# Altium footprint library clouds_v302.PcbLib: 31 footprints (part 2 of 2)
Each footprint in its own frame and in the unit in brackets; x right, y up, seen from the top. Pads: shape width x height; smd on the part's side, far side on the other; paste and mask are expansions set on the pad; w line width, h text height; cw(c..) or ccw(c..) is an arc to the next point about the centre after c.
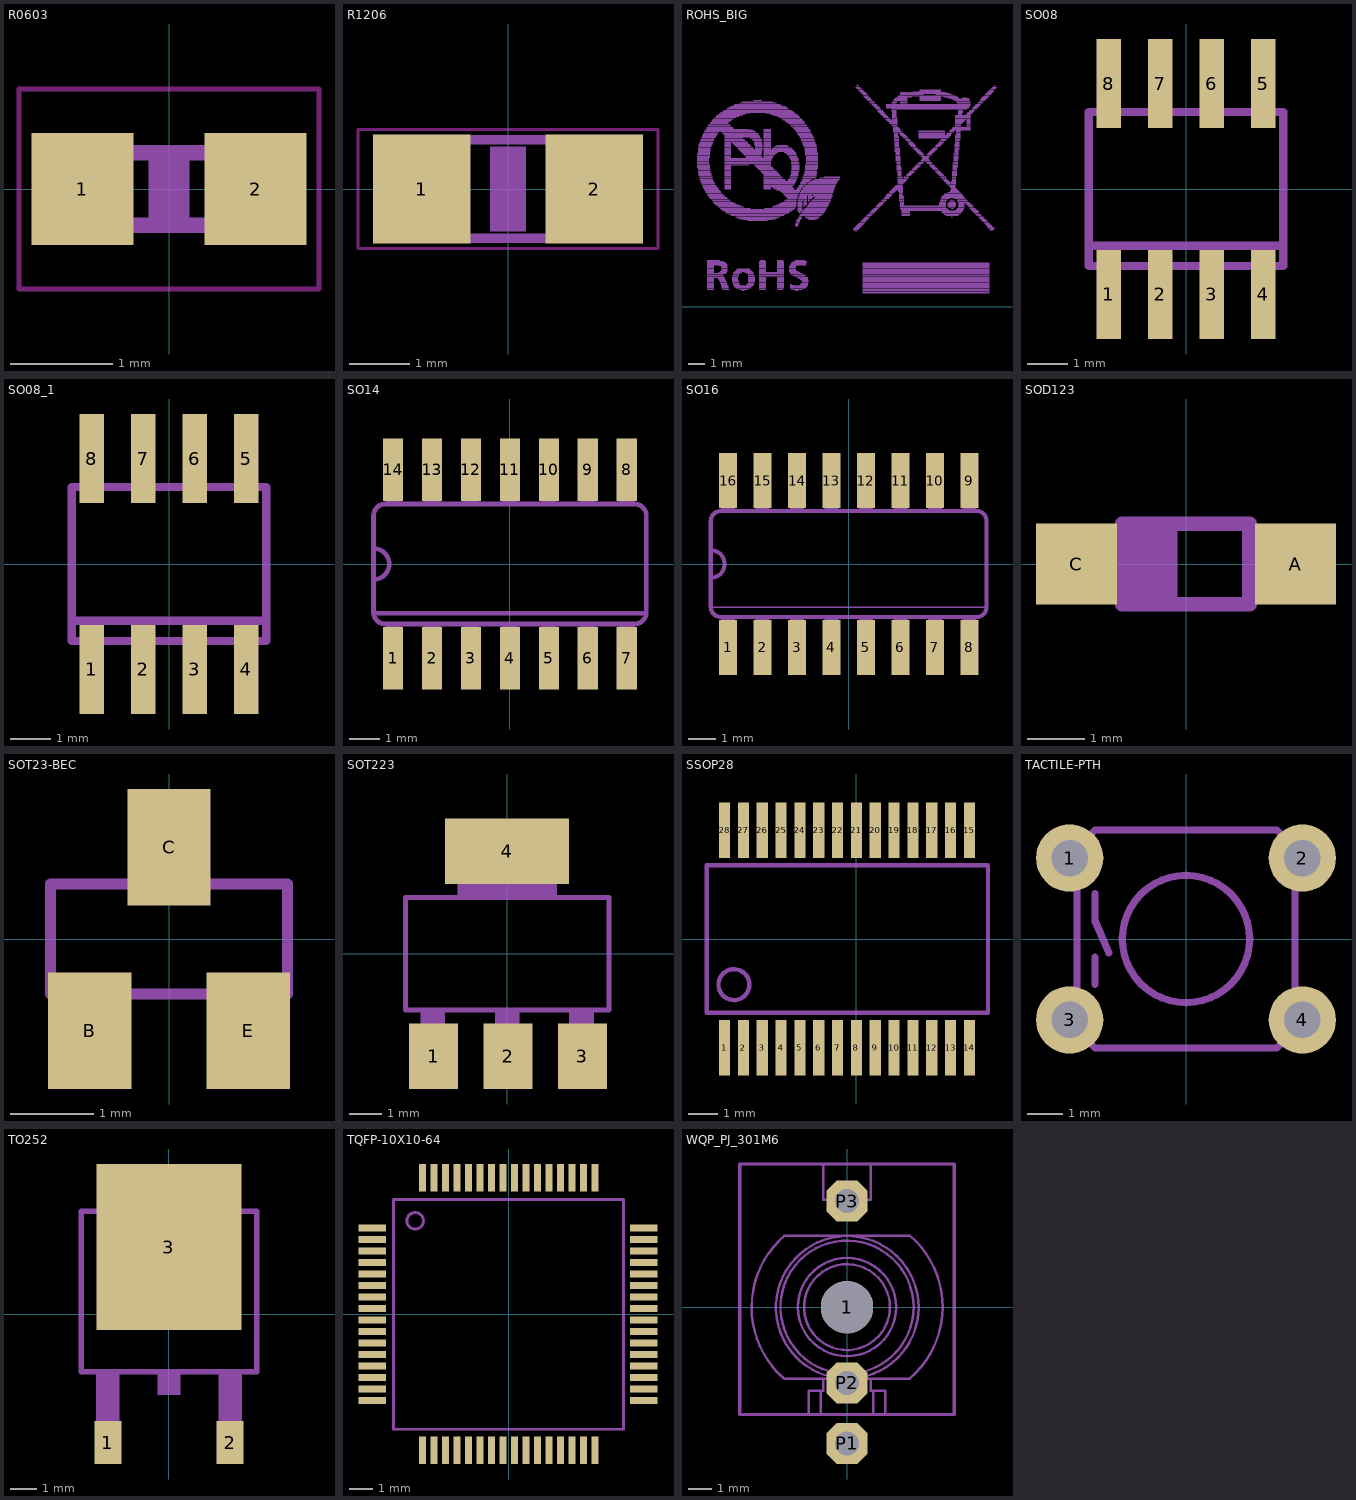
[diagram p1: the footprints below, top view; thin cyan lines are the x and y axes]

## R0603 [mm] "R0603"
pads (2):
  rect 1x1.1 smd: 1(-0.85,0) 2(0.85,0)
Keep-Out Layer:
  lines w0.051: -1.473,-0.983 1.473,-0.983 1.473,0.983 -1.473,0.983 -1.473,-0.983
Mechanical 8:
  rectangle: -0.2,-0.4 0.2,0.4
Mechanical 16:
  rectangle: 0.432,-0.432 0.838,0.432
  rectangle: -0.838,-0.432 -0.432,0.432
  lines w0.152: -0.432,-0.356 0.432,-0.356 ; -0.432,0.356 0.432,0.356

## R1206 [mil] "R1206"
pads (2):
  rect 62.99x70.98 smd: 1(-55.98,0) 2(55.98,0)
Keep-Out Layer:
  lines w2: -97.36,-38.7 97.36,-38.7 97.36,38.7 -97.36,38.7 -97.36,-38.7
Mechanical 8:
  rectangle: -11.81,-27.56 11.81,27.56
Mechanical 16:
  rectangle: -66.5,-34.5 -37.5,34.5
  rectangle: 37.5,-34.5 66.5,34.5
  lines w6: -38,-32 37.5,-32 ; -38,32 37.5,32

## ROHS_BIG [mil] "ROHS_BIG"
Bottom Overlay:
  drawing of 1400 lines, arcs and shapes, not listed

## SO08 [mil] "SO08"
pads (8):
  rect 23.62x86.61 smd: 1(-75,-102.36) 2(-25,-102.36) 3(25,-102.36) 4(75,-102.36) 5(75,102.36) 6(25,102.36) 7(-25,102.36) 8(-75,102.36)
Mechanical 16:
  rectangle: -84.65,-122.05 -65.35,-78.74
  rectangle: -34.65,-122.05 -15.35,-78.74
  rectangle: 15.35,-122.05 34.65,-78.74
  rectangle: 65.35,-122.05 84.65,-78.74
  rectangle: 65.35,78.74 84.65,122.05
  rectangle: 15.35,78.74 34.65,122.05
  rectangle: -34.65,78.74 -15.35,122.05
  rectangle: -84.65,78.74 -65.35,122.05
  lines w8: -94.49,-55.12 -94.49,-74.8 94.49,-74.8 94.49,-55.12 ; -94.49,-55.12 -94.49,74.8 94.49,74.8 94.49,-55.12 ; -94.49,-55.12 94.49,-55.12

## SO08_1 [mil] "SO08"
pads (8):
  rect 23.62x86.61 smd: 1(-75,-102.36) 2(-25,-102.36) 3(25,-102.36) 4(75,-102.36) 5(75,102.36) 6(25,102.36) 7(-25,102.36) 8(-75,102.36)
Mechanical 16:
  rectangle: -84.65,-122.05 -65.35,-78.74
  rectangle: -34.65,-122.05 -15.35,-78.74
  rectangle: 15.35,-122.05 34.65,-78.74
  rectangle: 65.35,-122.05 84.65,-78.74
  rectangle: 65.35,78.74 84.65,122.05
  rectangle: 15.35,78.74 34.65,122.05
  rectangle: -34.65,78.74 -15.35,122.05
  rectangle: -84.65,78.74 -65.35,122.05
  lines w8: -94.49,-55.12 -94.49,-74.8 94.49,-74.8 94.49,-55.12 ; -94.49,-55.12 -94.49,74.8 94.49,74.8 94.49,-55.12 ; -94.49,-55.12 94.49,-55.12

## SO14 [mil] "SO14"
pads (14):
  rect 26x80 smd: 1(-150,-121) 2(-100,-121) 3(-50,-121) 4(0,-121) 5(50,-121) 6(100,-121) 7(150,-121) 8(150,121) 9(100,121) 10(50,121) 11(0,121) 12(-50,121) 13(-100,121) 14(-150,121)
Mechanical 2:
  lines w6: -175,-63 175,-63 ; -175,-20 ccw(c-175,0) -175,20 ; -175,-62 ccw(c-160,-62) -160,-77 160,-77 ccw(c160,-62) 175,-62 175,62 ccw(c160,62) 160,77 -160,77 ccw(c-160,62) -175,62 -175,-62
Mechanical 16:
  rectangle: -10,77 10,122
  rectangle: -160,-122 -140,-77
  rectangle: -110,-122 -90,-77
  rectangle: -60,-121 -40,-76
  rectangle: -10,-122 10,-77
  rectangle: -60,77 -40,122
  rectangle: -110,77 -90,122
  rectangle: -160,77 -140,122
  rectangle: 40,77 60,122
  rectangle: 90,77 110,122
  rectangle: 140,77 160,122
  rectangle: 40,-122 60,-77
  rectangle: 90,-122 110,-77
  rectangle: 140,-122 160,-77

## SO16 [mil] "SO16"
pads (16):
  rect 26x80 smd: 1(-175,-121) 2(-125,-121) 3(-75,-121) 4(-25,-121) 5(25,-121) 6(75,-121) 7(125,-121) 8(175,-121) 9(175,121) 10(125,121) 11(75,121) 12(25,121) 13(-25,121) 14(-75,121) 15(-125,121) 16(-175,121)
Mechanical 2:
  lines w2: -200,-63 200,-63
  lines w6: -185,-77 cw(c-185,-62) -200,-62 -200,-20 ; -185,77 ccw(c-185,62) -200,62 -200,20 ; 185,-77 ccw(c185,-62) 200,-62 200,62 ccw(c185,62) 185,77 ; -200,-20 ccw(c-200,0) -200,20 ; -200,-20 -200,20
Mechanical 16:
  rectangle: -35,77 -15,122
  rectangle: -185,-122 -165,-77
  rectangle: -135,-122 -115,-77
  rectangle: -85,-121 -65,-76
  rectangle: -35,-122 -15,-77
  rectangle: -85,77 -65,122
  rectangle: -135,77 -115,122
  rectangle: -185,77 -165,122
  rectangle: 15,-122 35,-77
  rectangle: 65,-122 85,-77
  rectangle: 115,-122 135,-77
  rectangle: 165,-122 185,-77
  rectangle: 15,77 35,122
  rectangle: 65,77 85,122
  rectangle: 115,77 135,122
  rectangle: 165,77 185,122
  lines w6: -185,-77 185,-77 ; -185,77 185,77

## SOD123 [mil] "SOD123"
pads (2):
  rect 55.12x55.12 smd: A(74.8,0) C(-74.8,0)
Mechanical 16:
  rectangle: -76.77,-17.72 -47.24,15.75
  rectangle: 47.24,-17.72 76.77,15.75
  rectangle: -41.34,-25.59 -5.91,27.56
  lines w10: -43.31,-27.56 43.31,-27.56 43.31,27.56 -43.31,27.56 -43.31,-27.56

## SOT23-BEC [mm] "SOT23-BEC"
pads (3):
  rect 1x1.4 smd: B(-0.95,-1.1) C(0,1.1) E(0.95,-1.1)
Mechanical 16:
  rectangle: -0.229,0.711 0.229,1.295
  rectangle: 0.711,-1.295 1.168,-0.711
  rectangle: -1.168,-1.295 -0.711,-0.711
  lines w0.127: -1.422,-0.66 1.422,-0.66 1.422,0.66 -1.422,0.66 -1.422,-0.66

## SOT223 [mil] "SOT223"
pads (4):
  rect 59x79 smd: 1(-89,-124) 2(1,-124) 3(91,-124)
  rect 150x79 smd: 4(0,124)
Mechanical 2:
  lines w6: -122.99,-68.07 -122.99,68.15 122.99,68.15 122.99,-68.07 -122.99,-68.07
Mechanical 16:
  rectangle: -60,70 60,130
  rectangle: -105,-130 -75,-70
  rectangle: 75,-130 105,-70
  rectangle: -15,-130 15,-70

## SSOP28 [mil] "SSOP28"
pads (28):
  rect 15x75 smd: 1(-179.13,-147.72) 2(-153.54,-147.72) 3(-127.95,-147.72) 4(-102.36,-147.72) 5(-76.77,-147.72) 6(-51.18,-147.72) 7(-25.59,-147.72) 8(0,-147.72) 9(25.59,-147.72) 10(51.18,-147.72) 11(76.77,-147.72) 12(102.36,-147.72) 13(127.95,-147.72) 14(153.54,-147.72) 15(153.54,147.72) 16(127.95,147.72) 17(102.36,147.72) 18(76.77,147.72) 19(51.18,147.72) 20(25.59,147.72) 21(0,147.72) 22(-25.59,147.72) 23(-51.18,147.72) 24(-76.77,147.72) 25(-102.36,147.72) 26(-127.95,147.72) 27(-153.54,147.72) 28(-179.13,147.72)
Mechanical 2:
  circle w6: c-166.46,-62 r21
  lines w6: -203.46,-100.24 178.86,-100.24 178.86,100.24 -203.46,100.24 -203.46,-100.24

## TACTILE-PTH [mil] "TACTILE-PTH"
pads (4):
  round 74 hole 40: 1(-128,89) 2(128,89) 3(-128,-89) 4(128,-89)
Mechanical 2:
  circle w8: c0,0 r70
  lines w8: -120,-40 -120,40.47 ; -85,-120 85,-120 ; -85,120 85,120 ; 120,-40 120,39.29
Mechanical 16:
  lines w8: -120,-40 -120,-100 -100,-120 -85,-120 ; -120,40 -120,100 -100,120 -85,120 ; -100,-50 -100,-20 ; -100,50 -100,20 -85,-15 ; 85,-120 100,-120 120,-100 120,-40 ; 85,120 100,120 120,100 120,40

## TO252 [mm] "TO252"
pads (3):
  rect 1x1.6 smd: 1(-2.28,-4.8) 2(2.28,-4.8)
  rect 5.4x6.2 smd: 3(0,2.5)
Mechanical 2:
  rectangle: -0.432,-3.023 0.432,-2.261
  lines w0.203: -3.277,3.835 -3.277,-2.159 3.277,-2.159 3.277,3.835
Mechanical 16:
  rectangle: -2.718,-5.156 -1.854,-2.261
  rectangle: 1.854,-5.156 2.718,-2.261
  region: -2.565,3.937 -2.565,4.648 -2.108,5.105 2.108,5.105 2.565,4.648 2.565,3.937
  lines w0.203: -3.277,3.835 3.277,3.835 ; -2.565,3.937 -2.565,4.648 -2.108,5.105 2.108,5.105 2.565,4.648 2.565,3.937 -2.565,3.937

## TQFP-10X10-64 [mil] "TQFP-10X10-64"
pads (64):
  rect 47.24x11.81 smd: 1(-233.72,147.64) 2(-233.72,127.95) 3(-233.72,108.27) 4(-233.72,88.58) 5(-233.72,68.9) 6(-233.72,49.21) 7(-233.72,29.53) 8(-233.72,9.84) 9(-233.72,-9.84) 10(-233.72,-29.53) 11(-233.72,-49.21) 12(-233.72,-68.9) 13(-233.72,-88.58) 14(-233.72,-108.27) 15(-233.72,-127.95) 16(-233.72,-147.64) 33(231.72,-147.64) 34(231.72,-127.95) 35(231.72,-108.27) 36(231.72,-88.58) 37(231.72,-68.9) 38(231.72,-49.21) 39(231.72,-29.53) 40(231.72,-9.84) 41(231.72,9.84) 42(231.72,29.53) 43(231.72,49.21) 44(231.72,68.9) 45(231.72,88.58) 46(231.72,108.27) 47(231.72,127.95) 48(231.72,147.64)
  rect 11.81x47.24 smd: 17(-147.64,-232.72) 18(-127.95,-232.72) 19(-108.27,-232.72) 20(-88.58,-232.72) 21(-68.9,-232.72) 22(-49.21,-232.72) 23(-29.53,-232.72) 24(-9.84,-232.72) 25(9.84,-232.72) 26(29.53,-232.72) 27(49.21,-232.72) 28(68.9,-232.72) 29(88.58,-232.72) 30(108.27,-232.72) 31(127.95,-232.72) 32(147.64,-232.72) 49(147.64,233.72) 50(127.95,233.72) 51(108.27,233.72) 52(88.58,233.72) 53(68.9,233.72) 54(49.21,233.72) 55(29.53,233.72) 56(9.84,233.72) 57(-9.84,233.72) 58(-29.53,233.72) 59(-49.21,233.72) 60(-68.9,233.72) 61(-88.58,233.72) 62(-108.27,233.72) 63(-127.95,233.72) 64(-147.64,233.72)
Mechanical 2:
  circle w5: c-160,160 r14.14
  lines w5: -196.85,-196.85 -196.85,196.85 196.85,196.85 196.85,-196.85 -196.85,-196.85

## WQP_PJ_301M6 [mil] "WQP_PJ_301M6"
pads (4):
  round 86.61 hole 86.61: 1(0,0)
  oct 67.78x67.78 hole 40: P1(0,-225) P2(0,-125) P3(0,175)
Mechanical 2:
  lines w5: -177,-177 177,-177 177,236 -177,236 -177,-177
Mechanical 16:
  circle w4: c0.39,-0.39 r117.78
  circle w4: c0,0 r109.87
  circle w4: c0,0 r81.11
  circle w4: c0,0 r70.87
  lines w4: -104.02,-117.87 cw(c-1.6,-0.38) -102.68,118.27 ; -103.58,-118.11 103.15,-118.11 ; -103.58,118.11 103.15,118.11 ; -63,-177 -62.8,-137.8 -43.11,-137.8 ; -43.11,-177.17 -43.11,-137.8 ; -39.37,-118.11 -39.37,-137.8 -43.11,-137.8 ; -39.37,0 39.37,0 ; -39.37,236.22 -39.37,177.17 39.37,177.17 39.37,236.22 ; 0,-39.37 0,39.37 ; 39.37,-118.11 39.37,-137.8 43.11,-137.8 ; 43.11,-177.17 43.11,-137.8 ; 62.8,-177.17 62.8,-137.8 43.11,-137.8 ; 103.46,-117.87 ccw(c2.16,0.24) 104.02,117.87